# Altium schematic symbol library 00-100001-001.SchLib: 161 symbols (part 1 of 2)
Pins are listed as number, name and electrical type; pins without a type are passive.

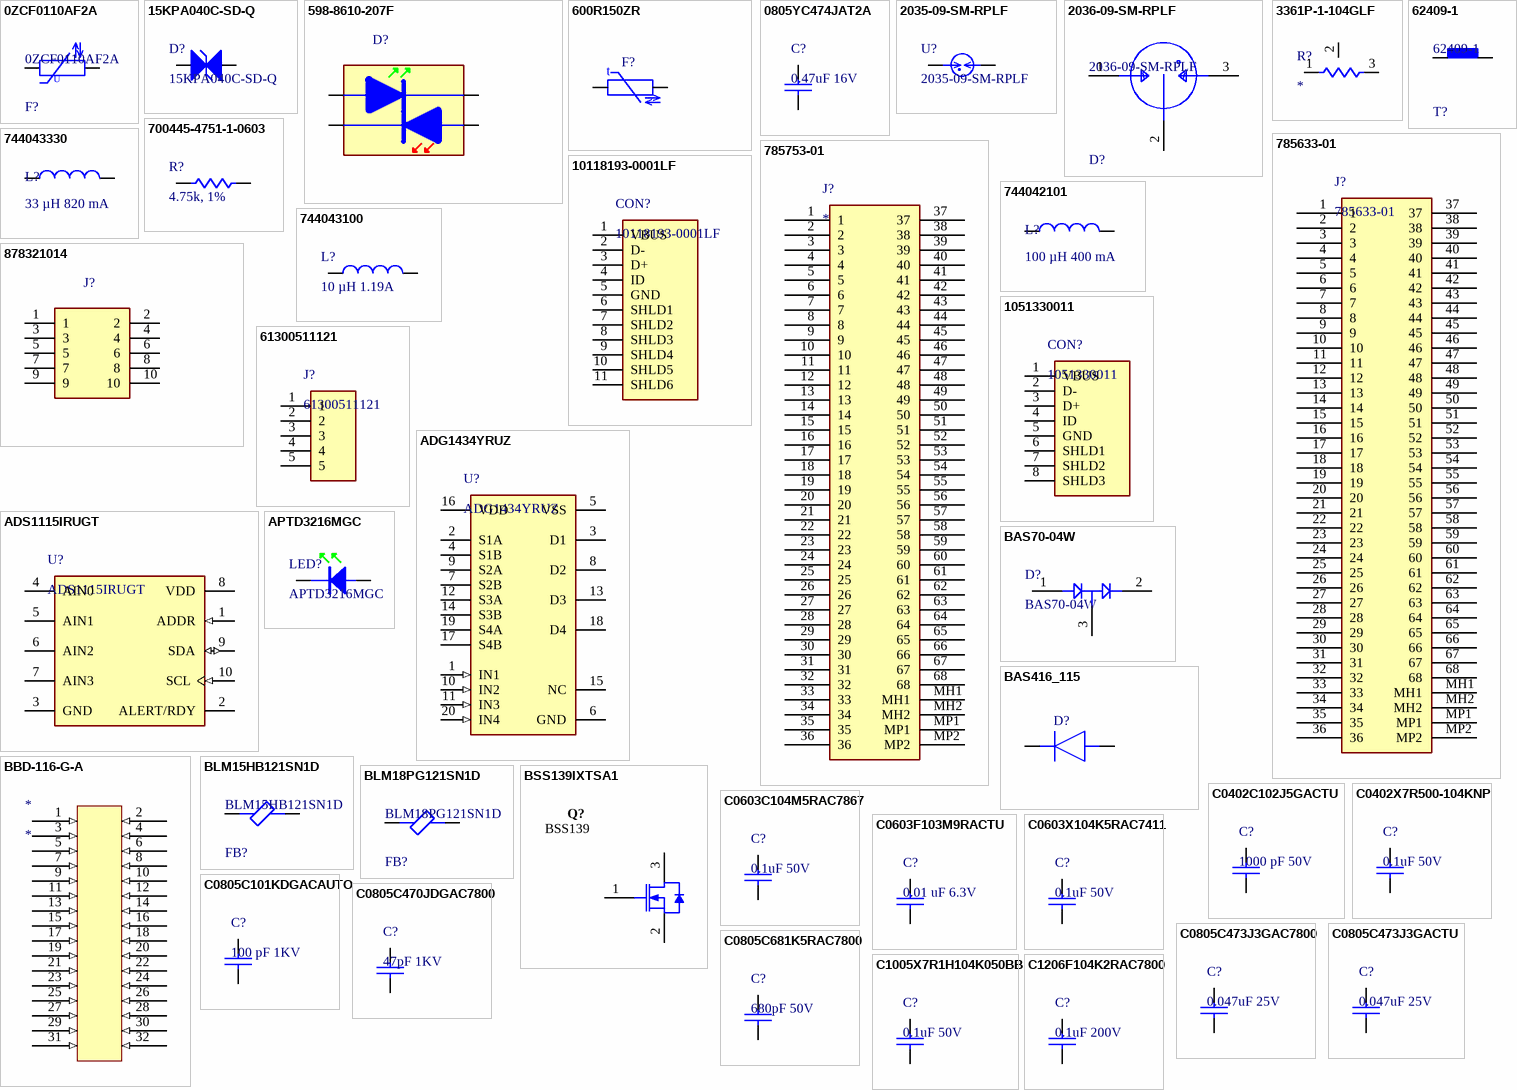
[diagram p0: symbols 0ZCF0110AF2A to C1206F104K2RAC7800]

## 0ZCF0110AF2A
designator F?
PTC RESET FUSE 60V 1.1A 2920; KMI: 841820
footprint 0ZCF0110AF2A
pins: 1, 2
text: U

## 15KPA040C-SD-Q
designator D?
Transient Voltage Suppression Diode, Bi-directional  60.5V Clamp 247.8A Ipp Tvs Diode Surface Mount DO-218; Capacitance @ Frequency: -; Package / Case: DO-214AB,SMC; Supplier Device Package: DO-214AB(SMCJ); Mounting Type: SurfaceMount
footprint DO-218_Type_E-MFG
pins: 1 A1, 2 A2

## 598-8610-207F
designator D?
Standard LEDs - SMD Red/Green WC 80/50mcd 645/570nm; KMI: 841261
footprint 5988610207F
pins: 1 A_YG, 2 K_YG, 3 A_R, 4 K_R

## 600R150ZR
designator F?
Resettable Fuses - PPTC 0.15A 600V RADIAL; KMI: 841641
footprint 600R150F
pins: 1, 2
text: t

## 0805YC474JAT2A
designator C?, comment 0.47uF 16V
0.47UF 16V 5% 0805 X7R, NPO Ceramic Capacitor; KMI: 821110; Value: 0.47uF 16V
footprint C0805-XXXXXX-XXX
pins: 1, 2

## 2035-09-SM-RPLF
designator U?
Precision Gas Discharge Tube Surge Protector; KMI: 840991
footprint 2035-09-SM-RPLF_BRN-M
pins: 1, 2

## 2036-09-SM-RPLF
designator D?
GDT 90V 20% 10KA SURFACE MOUNT; KMI: 840990
footprint 2036-09-SM-RPLF
pins: 1, 2, 3

## 3361P-1-104GLF
designator R?
Resistor; Manufacturer_Name: Bourns; Manufacturer_Part_Number: 3361P-1-104GLF; Datasheet Link: http://www.farnell.com/datasheets/1846252.pdf; Mouser Part Number: 652-3361P-1-104GLF; Mouser Price/Stock: https://www.mouser.co.uk/ProductDetail/Bourns/3361P-1-104GLF?qs=6dLjGpWcMUUsyFm0ilzttQ%3D%3D; Arrow Part Number: 3361P-1-104GLF; Arrow Price/Stock: https://www.arrow.com/en/products/3361p-1-104glf/bourns?region=nac
footprint 3361P_1
pins: 1, 2, 3

## 62409-1
designator T?
CONN QC TAB 0.250 SOLDER; Manufacturer: keystone; Number Of Contacts: 2; Conn Orientation: Straight; Category: Terminal; Manufacturer Part Number: 62409-1; Digikey Description: CONN QC TAB 0.250 SOLDER; Automotive: No; Lead Free: Yes; ComponentLink2URL: http://www.keyelco.com/product-pdf.cfm?p=1353; ComponentLink2Description: Datasheet; KMI: *
footprint TRM2_62409-1_TEC
pins: 1, 2

## 700445-4751-1-0603
designator R?, comment 4.75k, 1%
Generic 7xxx Resistor 0603; Mfg Name: 700445; Comm Number: 700445-4751-1-0603; Value: 4.75k, 1%; KMI: 700445-4751-1-0603
footprint R0603-XXXXXX-XXX
pins: 1, 2

## 785633-01
designator J?
Connector; Manufacturer_Name: NI; Datasheet Link: https://www.digikey.com/en/products/detail/ni/785633-01/16637125?s=N4IgTCBcDaIOwA4CsA2AzGkBdAvkA; Height: 10.8mm; Manufacturer_Part_Number: 785633-01
footprint CONN68_HDRA-EC_HON
pins: 1, 2, 3, 4, 5, 6, 7, 8, 9, 10, 11, 12, 13, 14, 15, 16, 17, 18, 19, 20, 21, 22, 23, 24, 25, 26, 27, 28, 29, 30, 31, 32, 33, 34, 35, 36, 37, 38, 39, 40, 41, 42, 43, 44, 45, 46, 47, 48, 49, 50, 51, 52, 53, 54, 55, 56, 57, 58, 59, 60, 61, 62, 63, 64, 65, 66, 67, 68, MH1, MH2, MP1, MP2

## 785753-01
designator J?
Connector; Manufacturer_Name: NI; Manufacturer_Part_Number: 785753-01; Datasheet Link: https://www.htk-jp.com/product/template/pdf/plan/HDRA-EC68FDT+%20EA.pdf; Height: 10.8mm
footprint 78575301
pins: 1, 2, 3, 4, 5, 6, 7, 8, 9, 10, 11, 12, 13, 14, 15, 16, 17, 18, 19, 20, 21, 22, 23, 24, 25, 26, 27, 28, 29, 30, 31, 32, 33, 34, 35, 36, 37, 38, 39, 40, 41, 42, 43, 44, 45, 46, 47, 48, 49, 50, 51, 52, 53, 54, 55, 56, 57, 58, 59, 60, 61, 62, 63, 64, 65, 66, 67, 68, MH1, MH2, MP1, MP2

## 10118193-0001LF
designator CON?
Conn Micro USB 2.0 Type B RCP 5 POS 0.65mm Solder RA SMD 5 Terminal 1 Port Micro-USB T/R; Value: 105017-0001; KMI: *
footprint CON02-000010-XXX
pins: 1 VBUS (power), 2 D-, 3 D+, 4 ID, 5 GND (power), 6 SHLD1, 7 SHLD2, 8 SHLD3, 9 SHLD4, 10 SHLD5, 11 SHLD6

## 744042101
designator L?, comment 100 µH 400 mA
SMD Shielded Tiny Power Inductor WE-TPC, L = 100 µH; KMI: 841636; ComponentLink1URL: http://www.we-online.com; PackageDescription: SMD Inductor, 2-Leads, Body 4.8 x 4.8 mm; PackageVersion: 2010; ComponentLink2URL: http://www.we-online.de/katalog/media/pdf/744042101.pdf; Value: 100 µH 400 mA; PackageReference: WE-TPC-4818-M; ComponentLink1Description: Manufacturer Link; ComponentLink2Description: Datasheet
footprint 744042101_WE-TPC-4818-M (SMD Inductor, 2-Leads, Body)
pins: 1, 2

## 744043100
designator L?, comment 10 µH 1.19A
SMD Shielded Tiny Power Inductor WE-TPC, L = 10 µH; KMI: 841891; Mfg Name: Wurth; Comm Number: 744043100; Value: 10 µH 1.19A
footprint 744042101_WE-TPC-4818-M (SMD Inductor, 2-Leads, Body)
pins: 1, 2

## 744043330
designator L?, comment 33 µH 820 mA
SMD Shielded Tiny Power Inductor WE-TPC, L = 33 µH; KMI: 841883; ComponentLink1URL: http://www.we-online.com; PackageDescription: SMD Inductor, 2-Leads, Body 4.8 x 4.8 mm; PackageVersion: 2010; ComponentLink2URL: http://www.we-online.de/katalog/media/pdf/744042101.pdf; Value: 33 µH 820 mA; PackageReference: WE-TPC-4818-M; ComponentLink1Description: Manufacturer Link; ComponentLink2Description: Datasheet
footprint 744042101_WE-TPC-4818-M (SMD Inductor, 2-Leads, Body)
pins: 1, 2

## 878321014
designator J?
Header; Manufacturer_Name: 3M; KMI: 854193; Mouser Part Number: 878321014; Mouser Price/Stock: https://www.digikey.com/en/products/detail/molex/0878321014/3313205; Manufacturer_Part_Number: 878321014
footprint 87832-1014-MFG
pins: 1, 2, 3, 4, 5, 6, 7, 8, 9, 10

## 1051330011
designator CON?
CONN RCPT USB2.0 MICRO B SMD; Value: 1051330011; KMI: *
footprint MOLX-105133-0001_V (Micro USB B, 5-Leads, Pitch 0.65mm)
pins: 1 VBUS (power), 2 D-, 3 D+, 4 ID, 5 GND (power), 6 SHLD1, 7 SHLD2, 8 SHLD3

## 61300511121
designator J?
Connector; Manufacturer_Name: Wurth Elektronik; Datasheet Link: http://katalog.we-online.de/em/datasheet/6130xx11121.pdf; Height: 8.54mm; Manufacturer_Part_Number: 61300511121; Mouser Part Number: 710-61300511121; Mouser Price/Stock: https://www.mouser.co.uk/ProductDetail/Wurth-Elektronik/61300511121?qs=PhR8RmCirEZCsCRHq%252BvfRQ%3D%3D
footprint HDRV5W64P0X254_1X5_1270X254X854P
pins: 1, 2, 3, 4, 5

## ADG1434YRUZ
designator U?
IC SWITCH SPDTX4 4.7OHM 20TSSOP
footprint SOP65P640X120-20N
pins: 1 IN1 (in) "Logic Control Input 1.", 2 S1A "Source Terminal 1A. Can be an input or an output.", 3 D1 "Drain Terminal 1. Can be an input or an output.", 4 S1B "Source Terminal 1B. Can be an input or an output.", 5 VSS (power) "Most Negative Power Supply Potential. In single-supply applications, it can be connected to ground.", 6 GND (power) "Ground (0 V) Reference.", 7 S2B "Source Terminal 2B. Can be an input or an output.", 8 D2 "Drain Terminal 2. Can be an input or an output.", 9 S2A "Source Terminal 2A. Can be an input or an output.", 10 IN2 (in) "Logic Control Input 2.", 11 IN3 (in) "Logic Control Input 3.", 12 S3A "Source Terminal 3A. Can be an input or an output.", 13 D3 "Drain Terminal 3. Can be an input or an output.", 14 S3B "Source Terminal 3B. Can be an input or an output.", 15 NC "No Connect.", 16 VDD (power) "Most Positive Power Supply Potential.", 17 S4B "Source Terminal 4B. Can be an input or an output.", 18 D4 "Drain Terminal 4. Can be an input or an output.", 19 S4A "Source Terminal 4A. Can be an input or an output.", 20 IN4 (in) "Logic Control Input 4."

## ADS1115IRUGT
designator U?
16-Bit ADC with Integrated Multiplexer, PGA, Comparator, Oscillator, and Reference, -40 to 125 degC, 10-pin HandDrawn (RUG10), Green (RoHS & no Sb/Br); KMI: 812246; Mounting Technology: Surface Mount; PartNumber: ADS1115IRUGT; ComponentLink2URL: http://www.ti.com/general/docs/lit/getliterature.tsp?genericPartNumber=ADS1115&fileType=pdf; ComponentLink2Description: Datasheet; ComponentLink3URL: http://www.ti.com/litv/pdf/mpqf216a; ComponentLink3Description: Package Specification
footprint ADS1115IRUGT (QFN, 10-Leads, Body 2x1.5mm)
pins: 1 ADDR (in) "I2C slave address select", 2 ALERT/RDY (oc) "Digital comparator output or conversion ready", 3 GND (power) "Ground", 4 AIN0 "Differential channel 1: Positive input or single-ended channel 1 input", 5 AIN1 "Differential channel 1: Negative input or single-ended channel 2 input", 6 AIN2 "Differential channel 2: Positive input or single-ended channel 3 input", 7 AIN3 "Differential channel 2: Negative input or single-ended channel 4 input", 8 VDD (power) "Power supply: 2.0V to 5.5V", 9 SDA (io) "Serial data: Transmits and receives data", 10 SCL (in) "Serial clock input: Clocks data on SDA"

## APTD3216MGC
designator LED?
1206 SMD Green Clear LED; KMI: 841257; Value: Green
footprint APTD3216MGC
pins: 1 K "Cathode", 2 A "Anode"

## BAS70-04W
designator D?
Silicon Schottky Diode, -55 to 125 degC, SOT323, Reel, Green; Manufacturer: Infineon; KMI: 800433; ComponentLink2Description: Datasheet; ComponentLink1Description: Manufacturer URL; ComponentLink2URL: http://www.infineon.com/dgdl/bas70_bas170series.pdf?folderId=db3a30431400ef68011425f1ca2505e3&fileId=db3a304314dca389011518ad41680e12; ComponentLink3URL: http://www.infineon.com/dgdl/SOT323-Package_Overview.pdf?folderId=db3a30431936bc4b0119533e1dcb3c92&fileId=db3a30431936bc4b011953495f283cb1; ComponentLink1URL: http://www.infineon.com/; ComponentLink3Description: Package Specification; PartNumber: BAS70-04W
footprint SOT323_INF_M (SOT23, 3-Leads, Body 2x1.25 mm, Pitch 0.65 mm, IPC Low Density)
pins: 1 A1, 2 K2, 3 K1:A2

## BAS416_115
designator D?
NXP BAS416,115 Low Leakage Diode, 200mA 75V, 2-Pin SOD-323 plastic, surface-mounted package; 2 leads; 1.3 mm pitch; 1.7 mm x 1.25 mm x 0.95 mm body SOD323; Manufacturer_Name: Nexperia; Geometry.Height: 1.1mm; KMI: 800432; Mouser Part Number: 771-BAS416-T/R; Mouser Price/Stock: https://www.mouser.co.uk/ProductDetail/Nexperia/BAS416115?qs=me8TqzrmIYXN%2FT0VMI6NXg%3D%3D; Manufacturer_Part_Number: BAS416,115; Datasheet Link: https://assets.nexperia.com/documents/data-sheet/BAS416.pdf
footprint SOD-323_FP-IPC_A
pins: 1 K, 2 A

## BBD-116-G-A
designator *
footprint CON32_2X16_TU_BBS_SAI
pins: 1 (in), 2 (in), 3 (in), 4 (in), 5 (in), 6 (in), 7 (in), 8 (in), 9 (in), 10 (in), 11 (in), 12 (in), 13 (in), 14 (in), 15 (in), 16 (in), 17 (in), 18 (in), 19 (in), 20 (in), 21 (in), 22 (in), 23 (in), 24 (in), 25 (in), 26 (in), 27 (in), 28 (in), 29 (in), 30 (in), 31 (in), 32 (in)

## BLM15HB121SN1D
designator FB?
Chip Ferrite Bead, 0402, Ferrite Beads 120 OHM; Impedance: 120R; Frequency: 100MHz; KMI: 841515; Case Code (Imperial): 0603; RoHS Compliant: Yes; Number of Pins: 2; Min Operating Temperature: -55°C; Case Code (Metric): 1608
footprint BLM15-0402
pins: 1, 2

## BLM18PG121SN1D
designator FB?
Chip Ferrite Bead, 0603, 120Ω @ 100MHz, 0.05Ω, 25%, 2A; Impedance: 120R; KMI: 841819; Case Code (Imperial): 0603; RoHS Compliant: Yes; Number of Pins: 2; Min Operating Temperature: -55°C; Case Code (Metric): 1608; Frequency: 100MHz
footprint BLM18-0_15_0603
pins: 1, 2

## BSS139IXTSA1
designator Q?, comment BSS139
N-Channel SIPMOS Small-Signal-Transistor, 250 V VDS, 0.1 A ID, -55 to 150 degC, PG-SOT23, Reel, Green; Manufacturer: Infineon; QG: 2.3Â nC; VGS(th)(max): -1 V; Green: TRUE; ID(max): 0.1Â A; Mode: Depletion; RDS (on)(max): 14 Ohm; Ptot(max): 0.36Â W; RthJC(max): 350 K/W; VGS(th)(min): -2.1Â V; VDS (max): 250 V; IDpuls(max): 0.4Â A; ComponentLink1Description: Manufacturer URL; ComponentLink1URL: http://www.infineon.com/; Mounting Technology: Surface Mount; ComponentLink2Description: Datasheet; PartNumber: BSS139; DatasheetVersion: Rev. 1.8; PackageVersion: Apr-08; Packing: Reel; Technology: SIPMOS; Halogen-free: TRUE; PackageDescription: 3-Pin Small Outline Transistor Package, 2.9 x 1.3 mm Body, 0.95 mm Pitch; ComponentLink3Description: Package Specification; ComponentLink3URL: http://www.infineon.com/dgdl/SOT23-Package_Overview.pdf?folderId=db3a30431936bc4b0119532290053c66&fileId=db3a30431936bc4b0119533468123c85; ComponentLink2URL: http://www.infineon.com/dgdl/BSS139+Rev1.8_.pdf?folderId=db3a304325305e6d012596c6ca7b290a&fileId=db3a304333b8a7ca0133eed3136c61f2; PackageReference: PG-SOT23; KMI: *
footprint SOT23 - IPC_A
pins: 1 GATE, 2 SOURCE, 3 DRAIN

## C0402C102J5GACTU
designator C?, comment 1000 pF 50V
1000 pF ±5% 50V Ceramic Capacitor NPO 0402; KMI: 821293; Value: 1000 pF 50V
footprint C0402-XXXXXX-XXX
pins: 1, 2

## C0402X7R500-104KNP
designator C?, comment 0.1uF 50V
**** Do not use *** 0.1 µF ±10% 50V Ceramic Capacitor X7R 0402; KMI: 821123; Value: 0.1uF 50V
footprint C0402-XXXXXX-XXX
pins: 1, 2

## C0603C104M5RAC7867
designator C?, comment 0.1uF 50V
0.1 µF ±20% 50V Ceramic Capacitor X7R 0603; KMI: 821327; Value: 0.1uF 50V
footprint C0603-XXXXXX-XXX
pins: 1, 2

## C0603F103M9RACTU
designator C?, comment 0.01 uF 6.3V
Multilayer Ceramic Capacitors MLCC - SMD/SMT 6.3V 0.01uF X7R 0603 20%; Value: 0.01 uF 6.3V
footprint C0603-XXXXXX-XXX
pins: 1, 2

## C0603X104K5RAC7411
designator C?, comment 0.1uF 50V
0.1 µF ±10% 50V Ceramic Capacitor X7R 0603; KMI: 821295; Value: 0.1uF 50V
footprint C0603-XXXXXX-XXX
pins: 1, 2

## C0805C101KDGACAUTO
designator C?, comment 100 pF 1KV
100 pF ±10% 1000V (1kV) Ceramic Capacitor C0G, NP0 0805; KMI: 821312; Value: 100 pF 1KV
footprint C0805-XXXXXX-XXX
pins: 1, 2

## C0805C470JDGAC7800
designator C?, comment 47pF 1KV
47pF 1KV 5% 0805 COG, NPO Ceramic Capacitor; KMI: 821309; Value: 47pF 1KV
footprint C0805-XXXXXX-XXX
pins: 1, 2

## C0805C473J3GAC7800
designator C?, comment 0.047uF 25V
0.047UF 25V 5% 0805 COG, NPO Ceramic Capacitor; KMI: 821310; Value: 0.047uF 25V
footprint C0805-XXXXXX-XXX
pins: 1, 2

## C0805C473J3GACTU
designator C?, comment 0.047uF 25V
0.047UF 25V 5% 0805 COG, NPO Ceramic Capacitor; KMI: 821310; Value: 0.047uF 25V
footprint C0805-XXXXXX-XXX
pins: 1, 2

## C0805C681K5RAC7800
designator C?, comment 680pF 50V
680pF 25V 5% 0805 COG, NPO Ceramic Capacitor; KMI: 821430; Value: 680pF 50V
footprint C0805-XXXXXX-XXX
pins: 1, 2

## C1005X7R1H104K050BB
designator C?, comment 0.1uF 50V
0.1 µF ±10% 50V Ceramic Capacitor X7R 0402; KMI: 821123; Value: 0.1uF 50V
footprint C0402-XXXXXX-XXX
pins: 1, 2

## C1206F104K2RAC7800
designator C?, comment 0.1uF 200V
CAP CER 0.1UF 200V X7R 1206; Value: 0.1uF 200V
footprint C1206-XXXXXX-XXX
pins: 1, 2

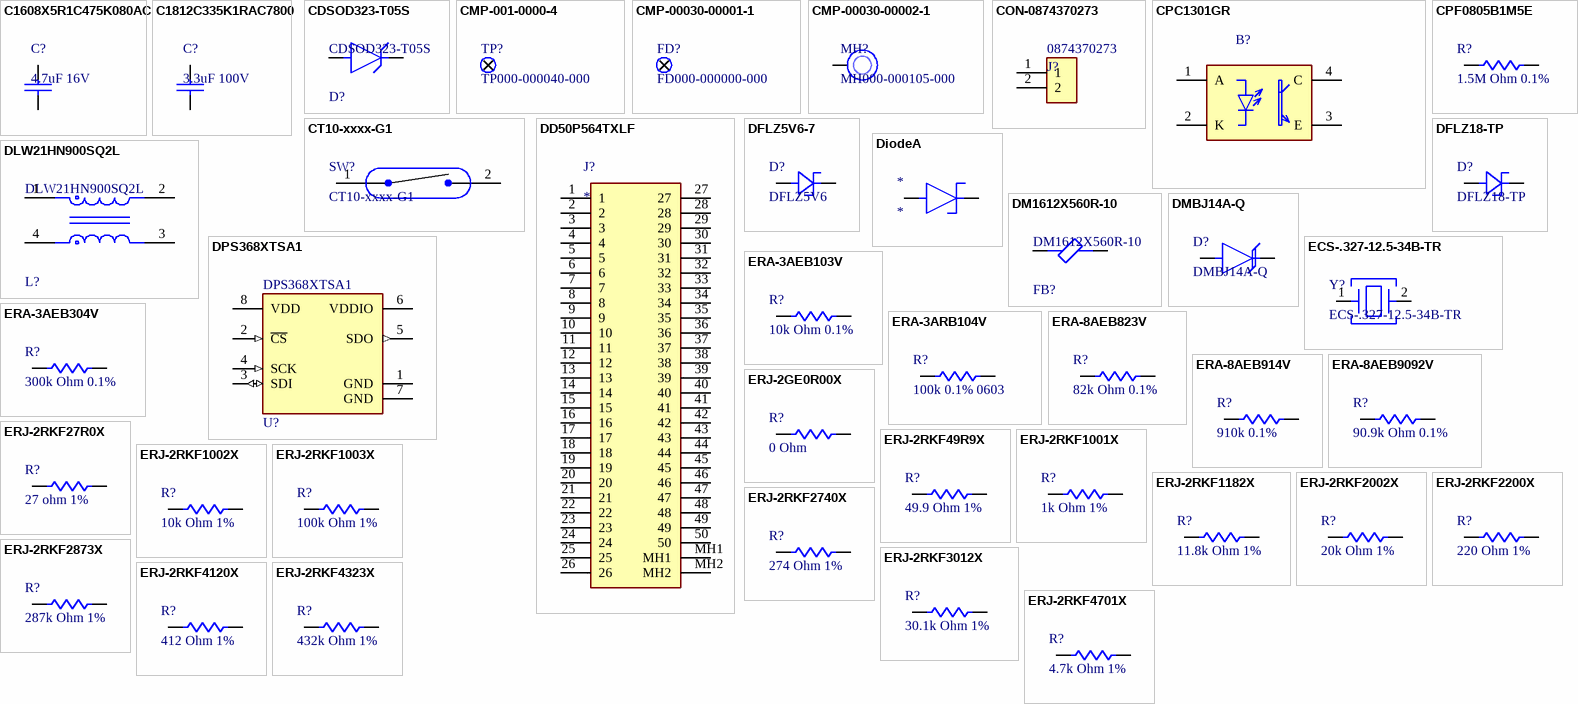
[diagram p1: symbols C1608X5R1C475K080AC to ERJ-2RKF4701X]

## C1608X5R1C475K080AC
designator C?, comment 4.7uF 16V
4.7 µF ±10% 16V Ceramic Capacitor X5R 0603; KMI: 821302; Value: 4.7uF 16V
footprint C0603-XXXXXX-XXX
pins: 1, 2

## C1812C335K1RAC7800
designator C?, comment 3.3uF 100V
CAP CER 3.3UF 100V X7R 1812; Value: 3.3uF 100V
footprint C1812-IPC_A
pins: 1, 2

## CDSOD323-T05S
designator D?
TVS DIODE 5V 13.5V SOD323; Manufacturer: Bourns Inc.; Peak Pulse Power: 500W; KMI: 800443; Device Class L2: TVS Diodes; Temperature: -55°C to +150°C; Device Class L3: unset; Digikey Description: TVS DIODE 5V 13.5V SOD323; ComponentLink2URL: https://www.bourns.com/docs/Product-Datasheets/CDSOD323-TxxSC.pdf; ComponentLink2Description: Datasheet
footprint CDSOD323-TxxS-IPC_A
pins: 1 C, 2 A

## CMP-001-0000-4
designator TP?, comment TP000-000040-000  (no BOM)
40 mil Test Point; Value: 40 mil
footprint TP000-000040-XXX
pins: 1 A "Anode"

## CMP-00030-00001-1
designator FD?, comment FD000-000000-000  (no BOM)
1mm Fiducial; Value: 1mm
footprint FD000-000000-XXX
pins: 1 A "Anode"

## CMP-00030-00002-1
designator MH?, comment MH000-000105-000  (no BOM)
105/197 Mounting Hole w/ smaller internal pads; Value: 105/197 CB
footprint MH000-000105-000
pins: 1 "Anode"

## CON-0874370273
designator J?, comment 0874370273
CONN HEADER SMD 2POS 1.5MM; Number of Contacts: 2; KMI: 854192; Orientation: Straight
footprint CON-87437-0273-MFG
pins: 1, 2

## CPC1301GR
designator B?
Optocoupler with High-Voltage Darlington Output; Manufacturer_Name: LITTELFUSE; Geometry.Height: 3.35mm; KMI: 811518; Mouser Part Number: 849-CPC1301GR; Mouser Price/Stock: https://www.mouser.co.uk/ProductDetail/IXYS-Integrated-Circuits/CPC1301GR?qs=OpMkDkHXivPfFn7MOBAUpg%3D%3D; Manufacturer_Part_Number: CPC1301GR; Datasheet Link: http://www.ixysic.com/home/pdfs.nsf/www/CPC1301.pdf/$file/CPC1301.pdf
footprint SOP254P952X335-4N
pins: 1 A, 2 K, 3 E, 4 C

## CPF0805B1M5E
designator R?, comment 1.5M Ohm 0.1%
1.5M OHM 0.1% 1/10W 0805; Value: 1.5M Ohm 0.1%; KMI: *
footprint R0805-XXXXXX-XXX (C0805-XXXXXX-XXX)
pins: 1, 2

## CT10-xxxx-G1
designator SW?
Encapsulated Molded Switch, SPST, 10 W, -40 to 125 degC, 2-Pin SMD, RoHS, Tape and Reel; Manufacturer: COTO Technology; Must Operate: 15~30AT; Catalog Drawings: CT10Series; Switching Current (DC) (Max): 500mA; Product Training Modules: ReedSwitchBasics; Other Names: 306-1125-6; Switching Voltage (DC) (Max): 200V; Circuit: SPST-NO; Magnet: NotSpecified; Switching Power (Max): 10W; Must Release: -; Datasheet URL: http://cotorelay.com/wp-content/uploads/2014/09/CT10_series_reed_relay_datasheet1.pdf; Package Reference: CT10-xxxx-G1; Series: CT10; Category: Switches; Package URL: http://cotorelay.com/wp-content/uploads/2015/01/ReedSwitch-TechAppInfo.pdf; Mounting Technology: SurfaceMount; Datasheet Version: 06/2015; Mounting Type: PCB,SurfaceMount; Online Catalog: CT10Series; Standard Package: 1; Manufacturer URL: http://cotorelay.com/; Termination Style: GullWing; Package Description: 2-Pin Surface Mount Switch, Body 11.6 x 2.41 mm; Family: Magnetic,ReedSwitches; Type: MoldedBody; Packaging: Digi-Reel®; KMI: *
footprint CT10-xxxx-G1 (Footprint not found)
pins: 1, 2

## DD50P564TXLF
designator J?
Connector; Manufacturer_Name: Amphenol; Manufacturer_Part_Number: DD50P564TXLF; Datasheet Link: https://cdn.amphenol-cs.com/media/wysiwyg/files/drawing/c-dsub-0066.pdf; Height: 15.75mm; Mouser Part Number: 649-DD50P564TXLF; Mouser Price/Stock: https://www.mouser.co.uk/ProductDetail/Amphenol-FCI/DD50P564TXLF?qs=zipNQUSoZIAta0LDkslECw%3D%3D
footprint DD50P564TXLF
pins: 1, 2, 3, 4, 5, 6, 7, 8, 9, 10, 11, 12, 13, 14, 15, 16, 17, 18, 19, 20, 21, 22, 23, 24, 25, 26, 27, 28, 29, 30, 31, 32, 33, 34, 35, 36, 37, 38, 39, 40, 41, 42, 43, 44, 45, 46, 47, 48, 49, 50, MH1, MH2

## DFLZ5V6-7
designator D?, comment DFLZ5V6
Zener; Mfr_Name: Diodes Inc; Manufacturer_Part_Number: DFLZ5V6-7; Type: DEV; KMI: 800314; Copyright: Copyright (C) 2022 Ultra Librarian. All rights reserved.; Digi-Key_Part_Number_1: DFLZ5V6DITR-ND; Digi-Key_Part_Number_2: DFLZ5V6DICT-ND; Digi-Key_Part_Number_3: DFLZ5V6DIDKR-ND; RefDes: RefDes
footprint DIODE_DFLZ5V6-7_DIO
pins: 1 C, 2 A

## DFLZ18-TP
designator D?
Zener Diode 18 V 1 W ±6% Surface Mount SOD-123FL; Mfr_Name: Micro Commercial Co; Type: DEV; Copyright: Copyright (C) 2022 Ultra Librarian. All rights reserved.; Manufacturer_Part_Number: DFLZ18-TP; Digi-Key_Part_Number_1: DFLZ18-TPMSTR-ND; Digi-Key_Part_Number_2: DFLZ18-TPMSTR-ND; RefDes: RefDes
footprint SOD123-DFLZ (SOD, 2-Leads, Body 2.7x1.65mm)
pins: 1 C, 2 A

## DiodeA
designator *
pins: 1 C, 2 A

## DLW21HN900SQ2L
designator L?
Common Mode Chokes / Filters 90 OHM 50V; DC Current: 330mA; Current Rating: 330mA; Lead Free: Lead Free; Length: 2mm; Radiation Hardening: No; Max Operating Temperature: 85°C; Voltage Rating: 50V
footprint DLW21HN-MFG
pins: 1, 2, 3, 4

## DM1612X560R-10
designator FB?
Ferrite Beads 56ohms 100MHz, Package / Case: 1612 (4131 metric); Impedance: 120R; KMI: 841171; Case Code (Imperial): 0603; RoHS Compliant: Yes; Number of Pins: 2; Min Operating Temperature: -55°C; Case Code (Metric): 1608
footprint DM1612X560R-10 (C1206-XXXXXX-XXX)
pins: 1, 2

## DMBJ14A-Q
designator D?
TVS DIODE SMB; Mfg Name: Bourns; Comm Number: DMBJ14A-Q-Q; KMI: 800581; Value: DMBJ14A-Q
footprint SMBJ18A-Q
pins: 1 C, 2 A

## DPS368XTSA1
designator U?
DIGITAL PRESSURE SENSOR; Port Style: No Port; KMI: 812241; Ambient Temperature Range Low: -40°C; Temperature: -40°C to +85°C; Ambient Temperature Range High: +85°C; ComponentLink2Description: Datasheet; ComponentLink2URL: https://www.infineon.com/dgdl/Infineon-DPS368-DataSheet-v01_01-EN.pdf?fileId=5546d46269e1c019016a0c45105d4b40
footprint DPS368XTSA1-VLGA-8-MFG
pins: 1 GND (power), 2 ~{CS} (in), 3 SDI (io), 4 SCK (in), 5 SDO (out), 6 VDDIO (power), 7 GND (power), 8 VDD (power)

## ECS-.327-12.5-34B-TR
designator Y?
CRYSTAL 32.7680KHZ 12.5PF SMD; Mfg Name: ECS Inc; KMI: 841898; Value: ECS-.327-12.5-34B-TR; Comm Number: ECS-.327-12.5-34B-TR
footprint ECS-.327-12.5-34B-TR
pins: 1, 2

## ERA-3AEB103V
designator R?, comment 10k Ohm 0.1%
10k Ohm 1/10W 0603 Resistor; KMI: 836183; Value: 10k Ohm 0.1%
footprint R0603-XXXXXX-XXX
pins: 1, 2

## ERA-3AEB304V
designator R?, comment 300k Ohm 0.1%
300k Ohm 1/10W 0603 Resistor, 0.1%; Value: 300k Ohm 0.1%; KMI: *
footprint R0603-XXXXXX-XXX
pins: 1, 2

## ERA-3ARB104V
designator R?, comment 100k 0.1% 0603
100k Ohm 1/10W 0603 Resistor; KMI: 836564; Mfg Name: Panasonic; Comm Number: ERA-3ARB104V; Value: 100k 0.1% 0603
footprint R0603-XXXXXX-XXX
pins: 1, 2

## ERA-8AEB823V
designator R?, comment 82k Ohm 0.1%
82k Ohm 1/4W 1206 Resistor; Mfg Name: Panasonic; KMI: 836581; Comm Number: ERA-8AEB823V; Value: 82k Ohm 0.1%
footprint R1206-XXXXXX-XXX
pins: 1, 2

## ERA-8AEB914V
designator R?, comment 910k 0.1%
910k Ohm 1/4W 1206 Resistor; Mfg Name: Panasonic; Comm Number: ERA-8AEB914V; KMI: 836582; Value: 910k 0.1%
footprint R1206-XXXXXX-XXX
pins: 1, 2

## ERA-8AEB9092V
designator R?, comment 90.9k Ohm 0.1%
90.9k Ohm 1/4W 1206 Resistor; KMI: 836563; Value: 90.9k Ohm 0.1%
footprint R1206-XXXXXX-XXX
pins: 1, 2

## ERJ-2GE0R00X
designator R?, comment 0 Ohm
0 Ohm 1/10W 0402 Resistor; KMI: 830103; Mfg Name: Panasonic; Comm Number: ERJ-2GE0R00X; Value: 0 Ohm
footprint R0402-XXXXXX-XXX
pins: 1, 2

## ERJ-2RKF27R0X
designator R?, comment 27 ohm 1%
27 Ohm 1/10W 0402 Resistor; Value: 27 ohm 1%; KMI: *
footprint R0402-XXXXXX-XXX
pins: 1, 2

## ERJ-2RKF49R9X
designator R?, comment 49.9 Ohm 1%
49.9 Ohm 1/10W 0402 Resistor; KMI: 830108; Value: 49.9 Ohm 1%
footprint R0402-XXXXXX-XXX
pins: 1, 2

## ERJ-2RKF1001X
designator R?, comment 1k Ohm 1%
1k Ohm 1/10W 0402 Resistor; Value: 1k Ohm 1%; KMI: *
footprint R0402-XXXXXX-XXX
pins: 1, 2

## ERJ-2RKF1002X
designator R?, comment 10k Ohm 1%
10k Ohm 1/10W 0402 Resistor; KMI: 836554; Mfg Name: Panasonic; Comm Number: ERJ-2RKF1002X; Value: 10k Ohm 1%
footprint R0402-XXXXXX-XXX
pins: 1, 2

## ERJ-2RKF1003X
designator R?, comment 100k Ohm 1%
100k Ohm 1/10W 0402 Resistor; KMI: 836553; Value: 100k Ohm 1%
footprint R0402-XXXXXX-XXX
pins: 1, 2

## ERJ-2RKF1182X
designator R?, comment 11.8k Ohm 1%
11.8k Ohm 1/10W 0402 Resistor; Value: 11.8k Ohm 1%; KMI: *
footprint R0402-XXXXXX-XXX
pins: 1, 2

## ERJ-2RKF2002X
designator R?, comment 20k Ohm 1%
20k Ohm 1/10W 0402 Resistor; KMI: 836557; Value: 20k Ohm 1%
footprint R0402-XXXXXX-XXX
pins: 1, 2

## ERJ-2RKF2200X
designator R?, comment 220 Ohm 1%
220 Ohm 1/10W 0402 Resistor; Value: 220 Ohm 1%; KMI: *
footprint R0402-XXXXXX-XXX
pins: 1, 2

## ERJ-2RKF2740X
designator R?, comment 274 Ohm 1%
274 Ohm 1/10W 0402 Resistor; Value: 274 Ohm 1%; KMI: *
footprint R0402-XXXXXX-XXX
pins: 1, 2

## ERJ-2RKF2873X
designator R?, comment 287k Ohm 1%
287k Ohm 1/10W 0402 Resistor; KMI: 836211; Value: 287k Ohm 1%
footprint R0402-XXXXXX-XXX
pins: 1, 2

## ERJ-2RKF3012X
designator R?, comment 30.1k Ohm 1%
30.1k Ohm 1/10W 0402 Resistor; KMI: 836562; Value: 30.1k Ohm 1%
footprint R0402-XXXXXX-XXX
pins: 1, 2

## ERJ-2RKF4120X
designator R?, comment 412 Ohm 1%
412 Ohm 1/10W 0402 Resistor; Value: 412 Ohm 1%; KMI: *
footprint R0402-XXXXXX-XXX
pins: 1, 2

## ERJ-2RKF4323X
designator R?, comment 432k Ohm 1%
432k Ohm 1/10W 0402 Resistor; Value: 432k Ohm 1%; KMI: *
footprint R0402-XXXXXX-XXX
pins: 1, 2

## ERJ-2RKF4701X
designator R?, comment 4.7k Ohm 1%
4.7k Ohm 1/10W 0402 Resistor; Value: 4.7k Ohm 1%; KMI: *
footprint R0402-XXXXXX-XXX
pins: 1, 2

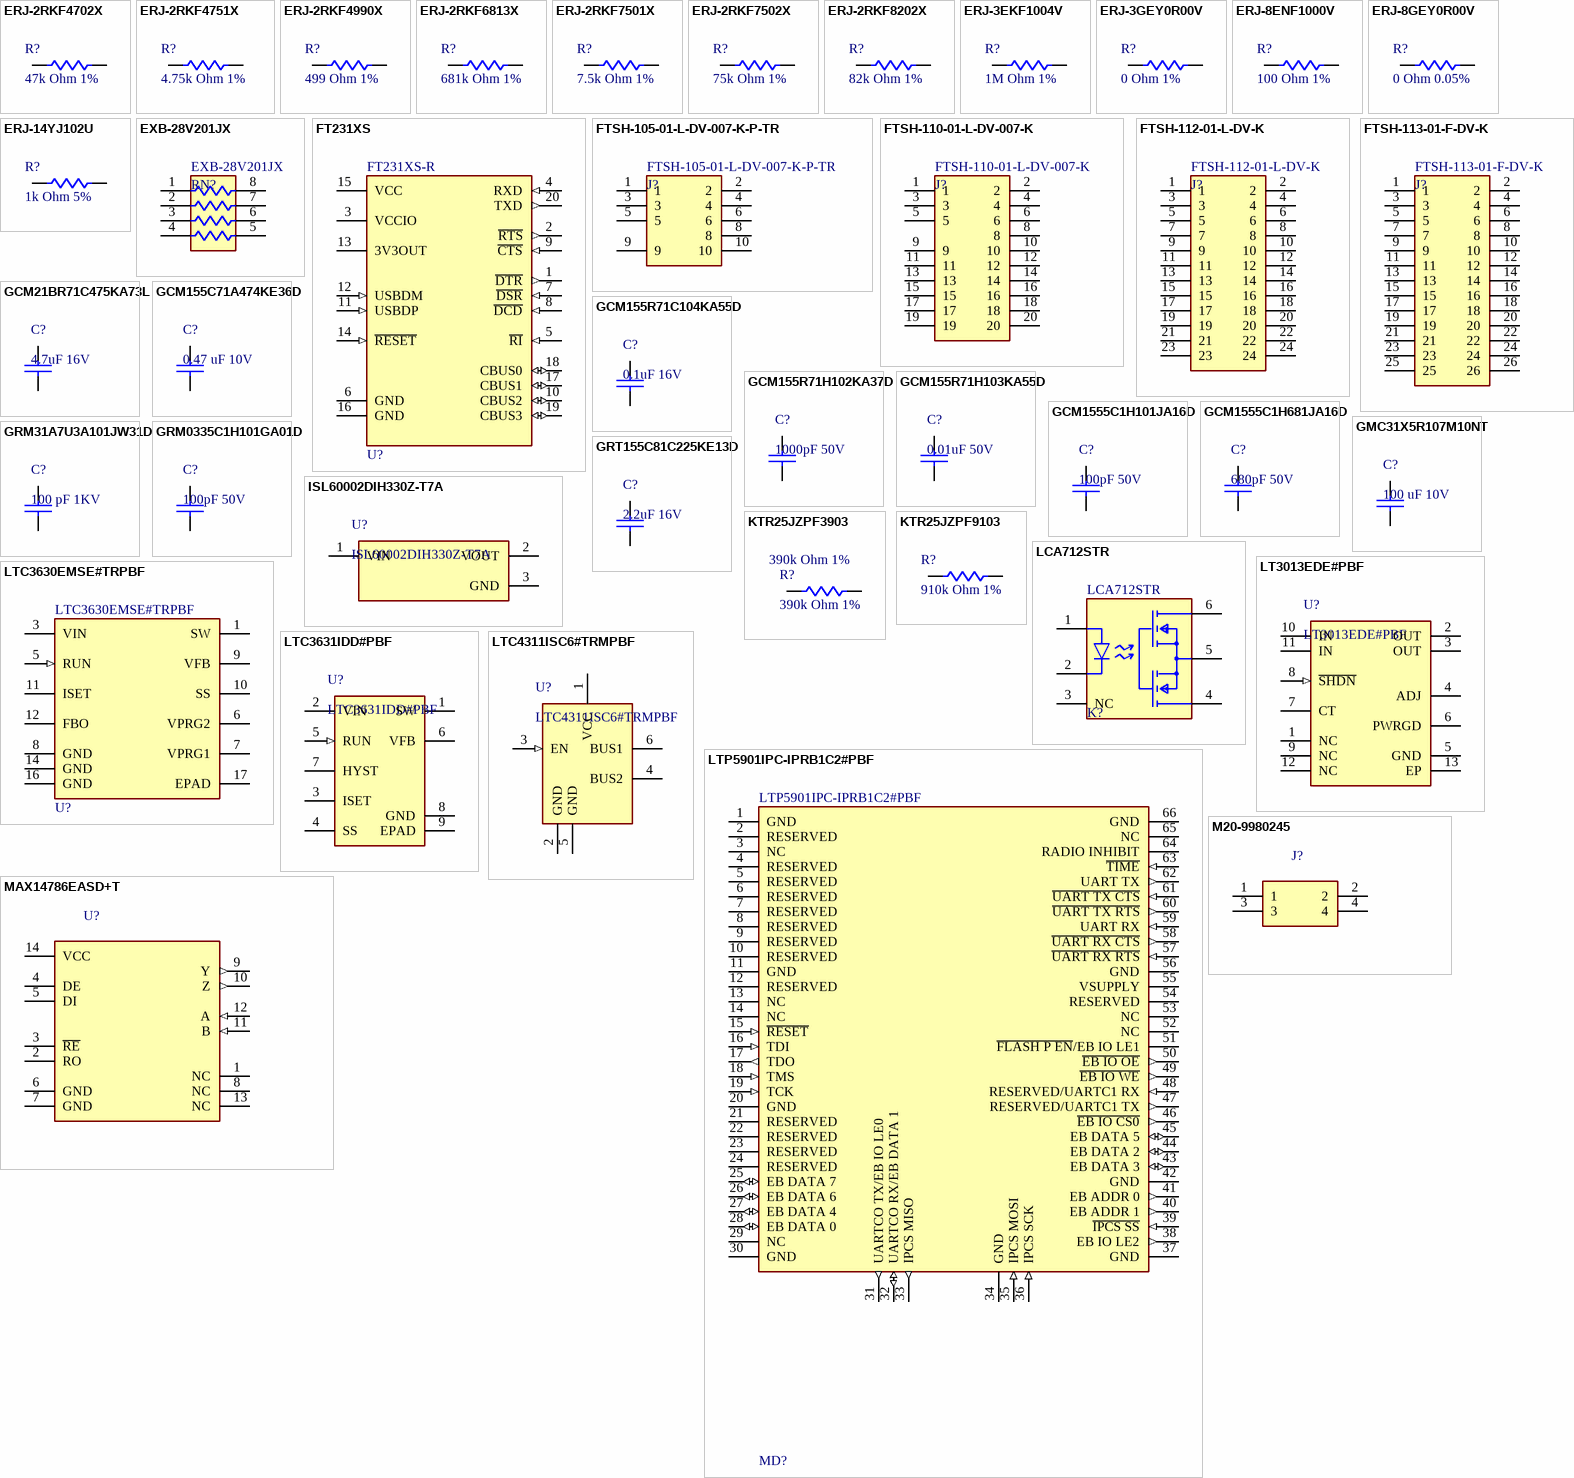
[diagram p2: symbols ERJ-2RKF4702X to MAX14786EASD+T]

## ERJ-2RKF4702X
designator R?, comment 47k Ohm 1%
47k Ohm 1/10W 0402 Resistor; KMI: 836556; Value: 47k Ohm 1%
footprint R0402-XXXXXX-XXX
pins: 1, 2

## ERJ-2RKF4751X
designator R?, comment 4.75k Ohm 1%
4.75k Ohm 1/10W 0402 Resistor; KMI: 836555; Value: 4.75k Ohm 1%
footprint R0402-XXXXXX-XXX
pins: 1, 2

## ERJ-2RKF4990X
designator R?, comment 499 Ohm 1%
499 Ohm 1/10W 0402 Resistor; Value: 499 Ohm 1%; KMI: *
footprint R0402-XXXXXX-XXX
pins: 1, 2

## ERJ-2RKF6813X
designator R?, comment 681k Ohm 1%
681k Ohm 1/10W 0402 Resistor; KMI: 836558; Value: 681k Ohm 1%
footprint R0402-XXXXXX-XXX
pins: 1, 2

## ERJ-2RKF7501X
designator R?, comment 7.5k Ohm 1%
7.5k Ohm 1/10W 0402 Resistor; KMI: 836561; Value: 7.5k Ohm 1%
footprint R0402-XXXXXX-XXX
pins: 1, 2

## ERJ-2RKF7502X
designator R?, comment 75k Ohm 1%
75k Ohm 1/10W 0402 Resistor; KMI: 836560; Value: 75k Ohm 1%
footprint R0402-XXXXXX-XXX
pins: 1, 2

## ERJ-2RKF8202X
designator R?, comment 82k Ohm 1%
82k Ohm 1/10W 0402 Resistor; Value: 82k Ohm 1%; KMI: *
footprint R0402-XXXXXX-XXX
pins: 1, 2

## ERJ-3EKF1004V
designator R?, comment 1M Ohm 1%
1M OHM 1% 1/10W 0603; Value: 1M Ohm 1%
footprint R0603-XXXXXX-XXX
pins: 1, 2

## ERJ-3GEY0R00V
designator R?, comment 0 Ohm 1%
0 OHM 1% 1/10W 0603; KMI: 836559; Mfg Name: Panasonic; Comm Number: ERJ-3GEY0R00V; Value: 0 Ohm 1%
footprint R0603-XXXXXX-XXX
pins: 1, 2

## ERJ-8ENF1000V
designator R?, comment 100 Ohm 1%
100 OHM 1% 1/4W 1206; Value: 100 Ohm 1%; KMI: *
footprint R1206-XXXXXX-XXX
pins: 1, 2

## ERJ-8GEY0R00V
designator R?, comment 0 Ohm 0.05%
0 Ohm 1/4W 1206 Resistor, 0.05%; KMI: 836559; MFG Name: Panasonic; Comm. Number: ERJ-8GEY0R00V; Value: 0 Ohm 0.05%
footprint R1206-XXXXXX-XXX (C1206-XXXXXX-XXX)
pins: 1, 2

## ERJ-14YJ102U
designator R?, comment 1k Ohm 5%
1k Ohm 1/2W 1210 Resistor; Value: 1k Ohm 5%
footprint KTR25-IPC_A
pins: 1, 2

## EXB-28V201JX
designator RN?
Resistor Networks & Arrays 200 OHM 5%; KMI: 836565; Lead Free: Lead Free
footprint EXB28V-MFG
pins: 1, 2, 3, 4, 5, 6, 7, 8

## FT231XS
designator U?, comment FT231XS-R
IC USB SERIAL FULL UART 20SSOP; Operating Supply Voltage: 5V; Height: 0.059inch; Packaging: Tape and Reel; Mount: Surface Mount; KMI: *
footprint SSOP-20-IPC_A
pins: 1 ~{DTR} (out), 2 ~{RTS} (out), 3 VCCIO (power), 4 RXD (in), 5 ~{RI} (in), 6 GND (power), 7 ~{DSR} (in), 8 ~{DCD} (in), 9 ~{CTS} (in), 10 CBUS2 (io), 11 USBDP (in), 12 USBDM (in), 13 3V3OUT (power), 14 ~{RESET} (in), 15 VCC (power), 16 GND (power), 17 CBUS1 (io), 18 CBUS0 (io), 19 CBUS3 (io), 20 TXD (out)

## FTSH-105-01-L-DV-007-K-P-TR
designator J?
Connector Header Surface Mount 10 position 0.050"; Number of Contacts: 9; KMI: 854195; Orientation: Straight
footprint FTSH-105-01-L-DV-007-K-MFG
pins: 1, 2, 3, 4, 5, 6, 8, 9, 10

## FTSH-110-01-L-DV-007-K
designator J?
Connector Header Surface Mount 20 position 0.050"; Number of Contacts: 9; Orientation: Straight
footprint FP-FTSH-110-01-L-DV-007-K-MFG
pins: 1, 2, 3, 4, 5, 6, 8, 9, 10, 11, 12, 13, 14, 15, 16, 17, 18, 19, 20

## FTSH-112-01-L-DV-K
designator J?
Connector Header Surface Mount 24 position 0.050"; Number of Contacts: 24; Orientation: Straight
footprint FTSH-112-01-L-DV-K
pins: 1, 2, 3, 4, 5, 6, 7, 8, 9, 10, 11, 12, 13, 14, 15, 16, 17, 18, 19, 20, 21, 22, 23, 24

## FTSH-113-01-F-DV-K
designator J?
Connector Header Surface Mount 26 position 0.050"; Number of Contacts: 24; KMI: 854194; Orientation: Straight
footprint FP-FTSH-113-01-F-DV-K-MFG
pins: 1, 2, 3, 4, 5, 6, 7, 8, 9, 10, 11, 12, 13, 14, 15, 16, 17, 18, 19, 20, 21, 22, 23, 24, 25, 26

## GCM21BR71C475KA73L
designator C?, comment 4.7uF 16V
4.7UF 16V 10% X7R 0805 Ceramic Capacitor; Value: 4.7uF 16V; KMI: *
footprint C0805-XXXXXX-XXX
pins: 1, 2

## GCM155C71A474KE36D
designator C?, comment 0.47 uF 10V
0.47uF 10V 10% X7S 0402 Ceramic Capacitor; Value: 0.47 uF 10V; KMI: *
footprint C0402-XXXXXX-XXX
pins: 1, 2

## GCM155R71C104KA55D
designator C?, comment 0.1uF 16V
0.1uF 16V 10% X7R 0402 Ceramic Capacitor; KMI: 821069; Mfg Name: MURATA; Comm Number: GCM155R71C104KA55D; Value: 0.1uF 16V
footprint C0402-XXXXXX-XXX
pins: 1, 2

## GCM155R71H102KA37D
designator C?, comment 1000pF 50V
1000 pF 50V 10% 0402 X7R Ceramic Capacitor; Value: 1000pF 50V
footprint C0402-XXXXXX-XXX
pins: 1, 2

## GCM155R71H103KA55D
designator C?, comment 0.01uF 50V
0.01uF 50V 10% X7R 0402 Ceramic Capacitor; Value: 0.01uF 50V; KMI: *
footprint C0402-XXXXXX-XXX
pins: 1, 2

## GCM1555C1H101JA16D
designator C?, comment 100pF 50V
100PF 50V 5% COG NPO 0402 Ceramic Capacitor; Value: 100pF 50V; KMI: *
footprint C0402-XXXXXX-XXX
pins: 1, 2

## GCM1555C1H681JA16D
designator C?, comment 680pF 50V
680pF 50V 5% NP0/C0G 0402 Ceramic Capacitor; Value: 680pF 50V; KMI: *
footprint C0402-XXXXXX-XXX
pins: 1, 2

## GMC31X5R107M10NT
designator C?, comment 100 uF 10V
100 µF ±20% 10V Ceramic Capacitor X5R 1206; KMI: 821442; Value: 100 uF 10V
footprint C1206-XXXXXX-XXX
pins: 1, 2

## GRM31A7U3A101JW31D
designator C?, comment 100 pF 1KV
100 pF ±5% 1000V (1kV) Ceramic Capacitor C0G, NP0 1206; Value: 100 pF 1KV
footprint C1206-XXXXXX-XXX
pins: 1, 2

## GRM0335C1H101GA01D
designator C?, comment 100pF 50V
100 pF ±2% 50V Ceramic Capacitor X7R 0603; KMI: 821335; Value: 100pF 50V
footprint C0603-XXXXXX-XXX
pins: 1, 2

## GRT155C81C225KE13D
designator C?, comment 2.2uF 16V
2.2uF 16V 10% 0402 Ceramic Capacitor; KMI: 821443; Value: 2.2uF 16V
footprint C0402-XXXXXX-XXX
pins: 1, 2

## ISL60002DIH330Z-T7A
designator U?
Precision Low Power FGA Voltage References; Mfr_Name: Renesas Electronics; KMI: 812247; Copyright: Copyright (C) 2022 Ultra Librarian. All rights reserved.; Manufacturer_Part_Number: ISL60002DIH330Z-T7A; RefDes: RefDes; Type: DEV
footprint SOT23 - IPC_A
pins: 1 VIN (power), 2 VOUT (power), 3 GND (power)

## KTR25JZPF3903
designator R?, comment 390k Ohm 1%
390k Ohm 1/3W 1210 Resistor; Value: 390k Ohm 1%
footprint KTR25-IPC_A
pins: 1, 2

## KTR25JZPF9103
designator R?, comment 910k Ohm 1%
910k Ohm 1/3W 1210 Resistor; Value: 910k Ohm 1%
footprint KTR25-IPC_A
pins: 1, 2

## LCA712STR
designator K?
SSR RELAY SPST-NO 1A 0-60V; Output Voltage: 60V; Series: LCA, OptoMOS®; Mount: Surface Mount; KMI: *
footprint LCA712STR-MFG
pins: 1 + Control, 2 - Control, 3 NC, 4, 5, 6

## LT3013EDE#PBF
designator U?
250 mA, Low Dropout Micropower Linear Regulator with PWRGD, 4 to 80 V Vin, Adjustable Vout, 12-pin SON (DE-UE-12), -40 to 125 degC, Pb-Free; Manufacturer: Linear Technology; Vin Min(V): 4; Output Voltage: Adj; Isupply(mA): 0.065; Discrete Pass Element: no; PSRR(dB): 75; Vin Max(V): 80; Noise(uV): 100; Shutdown Current(uA): 1; Iout(mA): 250; Vout Max(V): 60; Vout Min(V): 1.24; Dropout Voltage(V): 0.4; ComponentLink2URL: http://cds.linear.com/docs/en/datasheet/3013fe.pdf; ComponentLink1Description: Manufacturer URL; ComponentLink3URL: http://cds.linear.com/docs/en/packaging/DFN_12_05-08-1695.pdf; ComponentLink2Description: Datasheet; RoHS: TRUE; PackageDescription: 12-Pin Plastic DFN, Body 4 x 3 mm, Pitch 0.5 mm; ComponentLink3Description: Package Specification; Mounting Technology: Surface Mount; Code_JEDEC: MO-229; PackageVersion: Rev. D, 06/2010; PartNumber: LT3013EDE#PBF; DatasheetVersion: Rev. E; PackageReference: DE-UE-12; ComponentLink1URL: http://www.linear.com/; Number of Outputs: 1; KMI: *
footprint LT3013EDE#PBF (SON, 12-Leads, Body 4x3mm, Pitch 0.5mm, Thermal Pad 3.3x1.7mm)
pins: 1 NC "No Connect. These pins have no internal connection; connecting NC pins to a copper area for heat dissipation provides a small improvement in thermal performance.", 2 OUT (power) "Output. The output supplies power to the load. A minimum output capacitor of 3.3uF is required to prevent oscillations. Larger output capacitors will be required for applications with large transient loads to limit peak (See Datasheet)", 3 OUT (power) "Output. The output supplies power to the load. A minimum output capacitor of 3.3uF is required to prevent oscillations. Larger output capacitors will be required for applications with large transient loads to limit peak (See Datasheet)", 4 ADJ "Adjust. This is the input to the error amplifier. This pin is internally clamped to +/-7V. It has a bias current of 30nA which fl ows into the pin (see curve of ADJ Pin Bias Current vs Temperature in the Typical Performance (See Datasheet)", 5 GND (power) "Ground. The exposed backside of the package is an electrical connection for GND. As such, to ensure optimum device operation and thermal performance, the exposed pad must be connected directly to Pin 5/Pin 6 on the PC board.", 6 PWRGD (hiz) "Power Good. The PWRGD flag is an open collector flag to indicate that the output voltage has come up to above 90% of the nominal output voltage. There is no internal pull-up on this pin; a pull-up resistor must be used. The (See Datasheet)", 7 CT "Timing Capacitor. The CT pin allows the use of a small capacitor to delay the timing between the point where the output crosses the PWRGD threshold and the PWRGD flag changes to a high impedance state. Current out of this (See Datasheet)", 8 ~{SHDN} (in) "Shutdown. The S\H\D\N\ pin is used to put the LT3013 into a low power shutdown state. The output will be off when the S\H\D\N\ pin is pulled low. The S\H\D\N\ pin can be driven either by 5V logic or open-collector logic with (See Datasheet)", 9 NC "No Connect. These pins have no internal connection; connecting NC pins to a copper area for heat dissipation provides a small improvement in thermal performance.", 10 IN (power) "Input. Power is supplied to the device through the IN pin. A bypass capacitor is required on this pin if the device is more than six inches away from the main input filter capacitor. In general, the output impedance of a (See Datasheet)", 11 IN (power) "Input. Power is supplied to the device through the IN pin. A bypass capacitor is required on this pin if the device is more than six inches away from the main input filter capacitor. In general, the output impedance of a (See Datasheet)", 12 NC "No Connect. These pins have no internal connection; connecting NC pins to a copper area for heat dissipation provides a small improvement in thermal performance.", 13 EP (power) "Ground. The exposed backside of the package is an electrical connection for GND. As such, to ensure optimum device operation and thermal performance, the exposed pad must be connected directly to Pin 5/Pin 6 on the PC board."

## LTC3630EMSE#TRPBF
designator U?
IC REG BCK ADJ/PROG 500MA 16MSOP; Output Voltage: 76V; Output Type: Adjustable; Number of Outputs: 1; Synchronous Rectifier: Yes; Min Input Voltage: 4V; KMI: 812245; Package Quantity: 2500; Output Current: 500mA; Number of Pins: 12; Min Operating Temperature: -40°C; RoHS Compliant: Yes; Packaging: Tape and Reel; Max Operating Temperature: 125°C; Case/Package: SOP
footprint LTC3630EMSE#TRPBF
pins: 1 SW (power), 3 VIN (power), 5 RUN (in), 6 VPRG2, 7 VPRG1, 8 GND (power), 9 VFB, 10 SS (power), 11 ISET, 12 FBO, 14 GND (power), 16 GND (power), 17 EPAD (power)

## LTC3631IDD#PBF
designator U?
High Efficiency, High Voltage 100 mA Synchronous Step-Down Converter, 8-pin SON (DD-8), -40 to 125 degC, Pb-Free; Manufacturer: Linear Technology; Number of Outputs: 1; KMI: 811338; Code_JEDEC: MO-229; PackageDescription: 8-Pin Plastic DFN, Body 3 x 3 mm, Pitch 0.5 mm; ComponentLink1URL: http://www.linear.com/; ComponentLink1Description: Manufacturer URL; ComponentLink2URL: http://cds.linear.com/docs/en/datasheet/3631fe.pdf; RoHS: TRUE; ComponentLink3URL: http://cds.linear.com/docs/en/packaging/DFN_8_05-08-1698.pdf; ComponentLink3Description: Package Specification; Mounting Technology: Surface Mount; ComponentLink2Description: Datasheet
footprint LTC3631IDD#PBF
pins: 1 SW (power) "Switch Node Connection to Inductor. This pin connects to the drains of the internal power MOSFET switches.", 2 VIN (power) "Main Supply Pin. A ceramic bypass capacitor should be tied between this pin and GND (Pin 8).", 3 ISET, 4 SS "Soft-Start Control Input. A capacitor to ground at this pin sets the ramp time to full current output during start-up. A 5uA current is sourced out of this pin. If left floating, the ramp time defaults to an internal 0.75ms (See Datasheet)", 5 RUN (in), 6 VFB "Output Voltage Feedback. For the fixed output versions, connect this pin to the output supply. For the adjustable version, an external resistive divider should be used to divide the output voltage down for comparison to the (See Datasheet)", 7 HYST (oc) "Run Hysteresis Open-Drain Logic Output. This pin is pulled to ground when RUN (Pin 5) is below 1.2V. This pin can be used to adjust the RUN pin hysteresis. See Applications Information.", 8 GND (power) "Ground. The exposed pad must be soldered to the printed circuit board ground plane for optimal electrical and thermal performance.", 9 EPAD (power) "Ground. The exposed pad must be soldered to the printed circuit board ground plane for optimal electrical and thermal performance."

## LTC4311ISC6#TRMPBF
designator U?
IC ACCELERATOR I2C 1CH SC70-6; Mfg Name: Analog Devices; KMI: 811545; Value: LTC4311ISC6#TRMPBF; Comm Number: LTC4311ISC6#TRMPBF
footprint LTC4311ISC6#TRMPBF
pins: 1 VCC (power) "Switch Node Connection to Inductor. This pin connects to the drains of the internal power MOSFET switches.", 2 GND (power) "Ground. The exposed pad must be soldered to the printed circuit board ground plane for optimal electrical and thermal performance.", 3 EN (in), 4 BUS2 (oc) "Run Hysteresis Open-Drain Logic Output. This pin is pulled to ground when RUN (Pin 5) is below 1.2V. This pin can be used to adjust the RUN pin hysteresis. See Applications Information.", 5 GND (power) "Ground. The exposed pad must be soldered to the printed circuit board ground plane for optimal electrical and thermal performance.", 6 BUS1 "Output Voltage Feedback. For the fixed output versions, connect this pin to the output supply. For the adjustable version, an external resistive divider should be used to divide the output voltage down for comparison to the (See Datasheet)"

## LTP5901IPC-IPRB1C2#PBF
designator MD?
RX TXRX MODULE 802.15.4 CHIP SMD; Memory Size: 72KB; Interface: SPI; Min Supply Voltage: 2.1V; Sensitivity: -95dBm; Data Rate: 250Kbps; Max Frequency: 2.4835GHz; Max Supply Voltage: 3.76V; Current - Transmitting: 9.7mA; Current - Receiving: 4.5mA; Frequency: 2.4GHz; KMI: 812248; Mount: Surface Mount; REACH SVHC: No SVHC; Series: SmartMesh® IP; Max Operating Temperature: 85°C; Packaging: Rail/Tube; Min Operating Temperature: -40°C; Case/Package: Module
footprint LTP5901_PCA-66-05-08-10002-MFG
pins: 1 GND (power), 2 RESERVED, 3 NC, 4 RESERVED, 5 RESERVED, 6 RESERVED, 7 RESERVED, 8 RESERVED, 9 RESERVED, 10 RESERVED, 11 GND (power), 12 RESERVED, 13 NC, 14 NC, 15 ~{RESET} (in), 16 TDI (in), 17 TDO (out), 18 TMS (in), 19 TCK (in), 20 GND (power), 21 RESERVED, 22 RESERVED, 23 RESERVED, 24 RESERVED, 25 EB DATA 7 (io), 26 EB DATA 6 (io), 27 EB DATA 4 (io), 28 EB DATA 0 (io), 29 NC, 30 GND (power), 31 UARTCO TX/EB IO LE0 (out), 32 UARTCO RX/EB DATA 1 (io), 33 IPCS MISO (out), 34 GND (power), 35 IPCS MOSI (in), 36 IPCS SCK (in), 37 GND (power), 38 EB IO LE2 (out), 39 ~{IPCS SS} (in), 40 EB ADDR 1 (out), 41 EB ADDR 0 (out), 42 GND (power), 43 EB DATA 3 (io), 44 EB DATA 2 (io), 45 EB DATA 5 (io), 46 ~{EB IO CS0} (out), 47 RESERVED/UARTC1 TX (out), 48 RESERVED/UARTC1 RX (in), 49 ~{EB IO WE} (out), 50 ~{EB IO OE} (out), 51 ~{FLASH P EN}/EB IO LE1, 52 NC, 53 NC, 54 RESERVED, 55 VSUPPLY (power), 56 GND (power), 57 ~{UART RX RTS} (in), 58 ~{UART RX CTS} (out), 59 UART RX (in), 60 ~{UART TX RTS} (out), 61 ~{UART TX CTS} (in), 62 UART TX (out), 63 ~{TIME} (in), 64 RADIO INHIBIT, 65 NC, 66 GND (power)

## M20-9980245
designator J?
CONN HEADER VERT 4POS 2.54MM; Manufacturer_Name: Harwin; Digikey Part Number: 952-2119-ND; Manufacturer_Part_Number: M20-9980245
footprint CONN_M20-9980245_HRW
pins: 1, 2, 3, 4

## MAX14786EASD+T
designator U?
RS-485 Interface IC Full-Duplex, 35kV ESD-Protected, RS-485 Transceivers for High-Speed Communication; Manufacturer_Name: Maxim Integrated; Geometry.Height: 1.75mm; KMI: 812242; Mouser Part Number: 700-MAX14786EASD+T; Mouser Price/Stock: https://www.mouser.co.uk/ProductDetail/Maxim-Integrated/MAX14786EASD%2bT?qs=ooqgTKD20dqNsq5G%2FcpYpQ%3D%3D; Manufacturer_Part_Number: MAX14786EASD+T; Datasheet Link: https://pdfserv.maximintegrated.com/en/ds/MAX14784E-MAX14789E.pdf
footprint SOIC127P600X175-14N
pins: 1 NC, 2 RO, 3 ~{RE}, 4 DE, 5 DI, 6 GND, 7 GND, 8 NC, 9 Y (out), 10 Z (out), 11 B (in), 12 A (in), 13 NC, 14 VCC

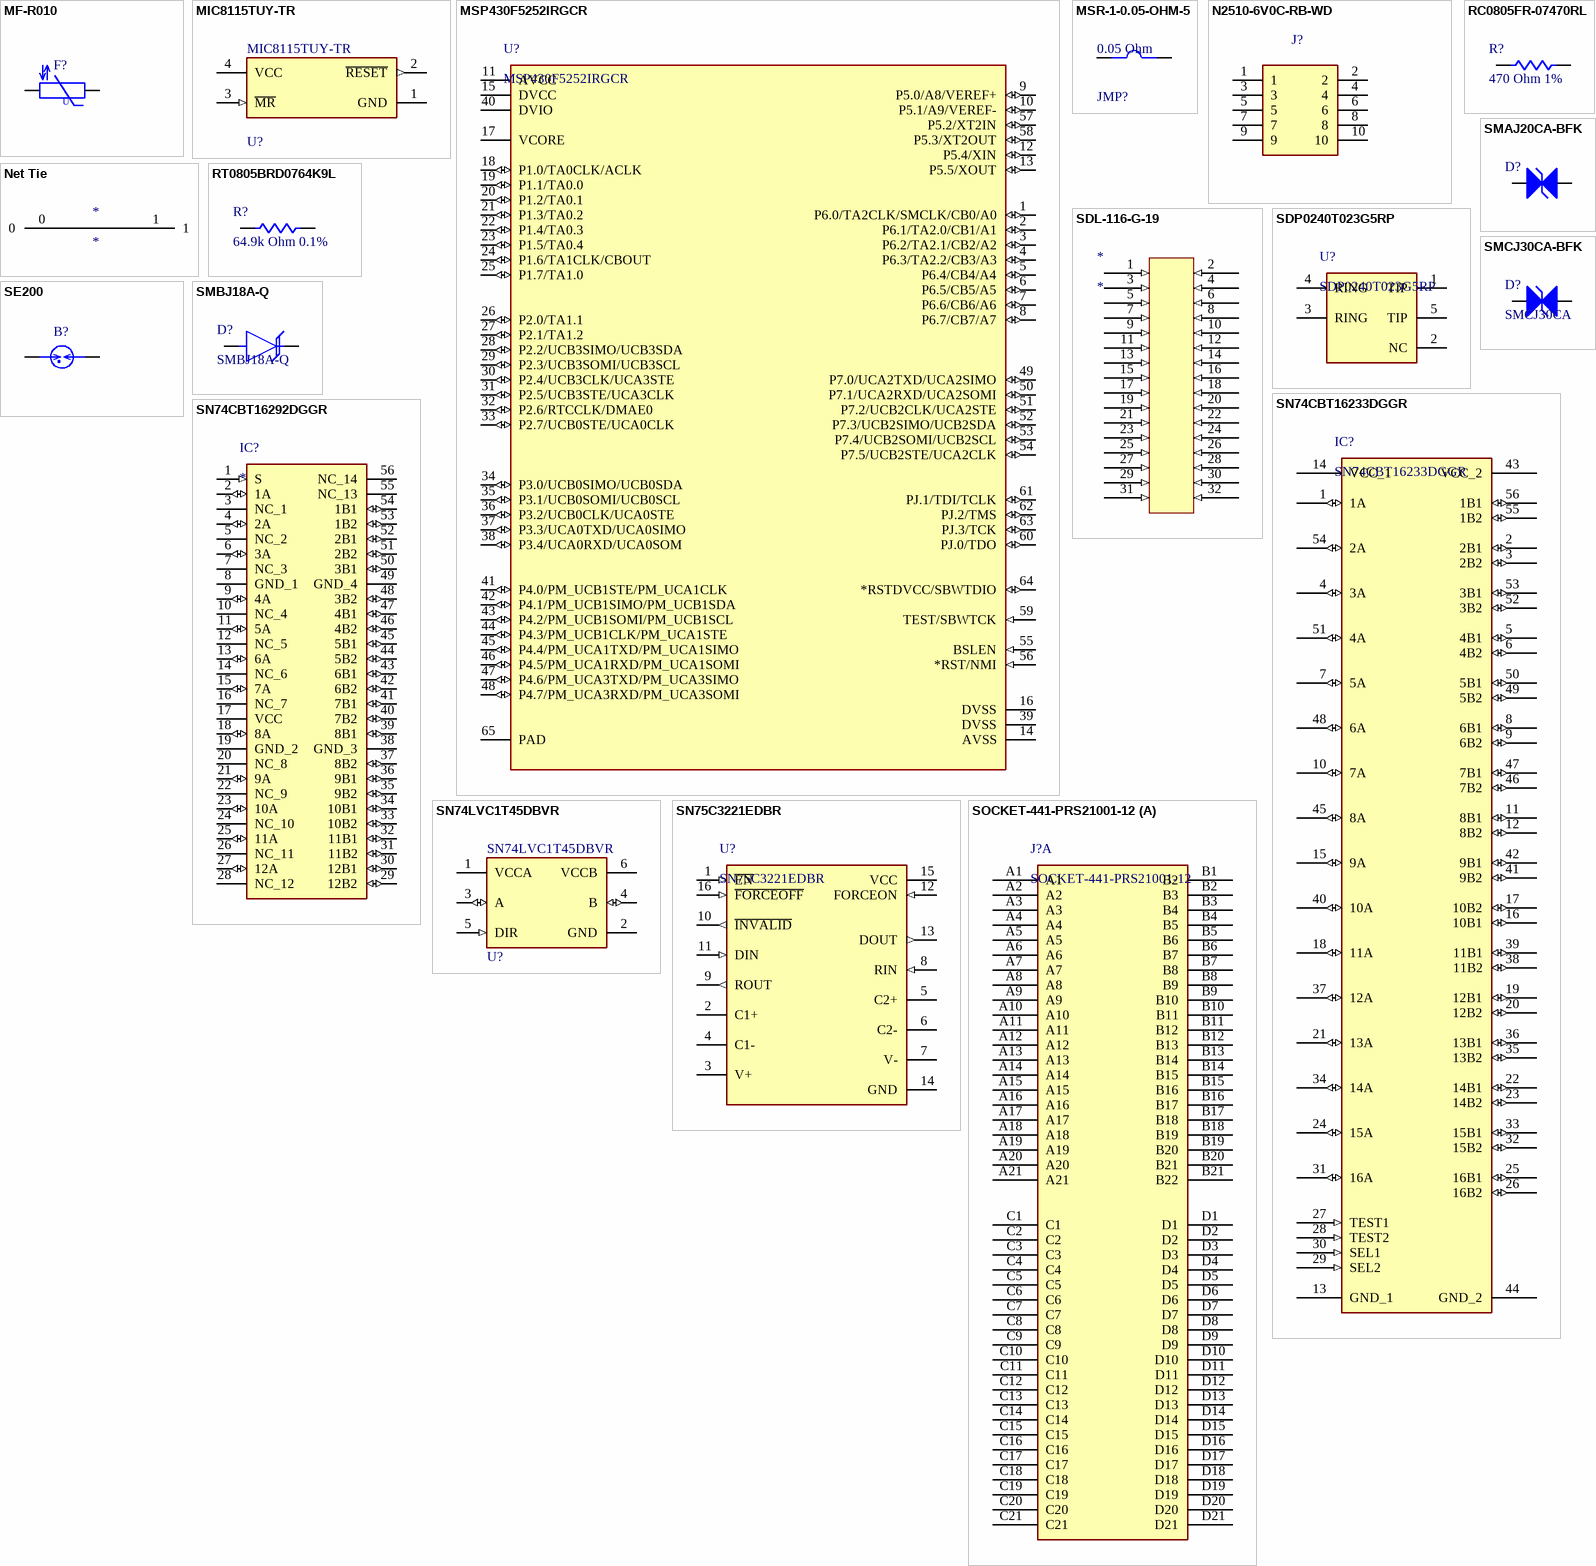
[diagram p3: symbols MF-R010 to SOCKET-441-PRS21001-12]

## MF-R010
designator F?, comment PTC4 MFR-010
Fuse, PTC, Resettable, Radial, 100mA Bourns 0.1A Radial Leaded PCB Mount Resettable Fuse, 60 V; Manufacturer_Part_Number: MF-R010; Mouser Part Number: 652-MFR010; Mouser Price/Stock: https://www.mouser.co.uk/ProductDetail/Bourns/MF-R010?qs=NZhrBIk5vYSszBMrewHGiw%3D%3D; Manufacturer_Name: Bourns; Datasheet Link: https://www.bourns.com/pdfs/mfr.pdf; KMI: *
footprint MF-R010-MFG
pins: 1, 2
text: U

## MIC8115TUY-TR
designator U?
IC SUPERVISOR 1 CHANNEL SOT143; Number of Voltages Monitored: 1; Power Dissipation: 320mW; Supply Current: 5uA; Min Reset Threshold Voltage: 3V; Reset: Active Low; Min Supply Voltage: 1V; Max Reset Threshold Voltage: 3.15V; Reset Timeout: 140ms; Max Supply Voltage: 5.5V; Watchdog Timer: No; Output: TOTEM-POLE; Threshold Voltage: 3.08V; KMI: 812240; RoHS Compliant: Yes; Number of Elements: 1; Min Operating Temperature: -40°C; Series: -; Type: Simple Reset/Power-On Reset; Nominal Supply Current: 5uA; Case/Package: SOT-143; Radiation Hardening: No; Max Operating Temperature: 85°C; Number of Pins: 4; Packaging: Tape and Reel; REACH SVHC: No SVHC; Mount: Surface Mount; Lead Free: Lead Free
footprint MIC8xx-SOT143-MFG
pins: 1 GND (power), 2 ~{RESET} (out), 3 ~{MR} (in), 4 VCC (power)

## MSP430F5252IRGCR
designator U?
25 MHz MCU with 128KB Flash, 16KB SRAM, comparator, DMA, UART/SPI/I2C, 1.8V Split-Rail I/O; Mfr_Name: Texas Instruments; KMI: 811718; Copyright: Copyright (C) 2022 Ultra Librarian. All rights reserved.; Manufacturer_Part_Number: MSP430F5252IRGCR; RefDes: RefDes; Type: DEV
footprint QFN50P900X900X100-65N
pins: 1 P6.0/TA2CLK/SMCLK/CB0/A0 (io), 2 P6.1/TA2.0/CB1/A1 (io), 3 P6.2/TA2.1/CB2/A2 (io), 4 P6.3/TA2.2/CB3/A3 (io), 5 P6.4/CB4/A4 (io), 6 P6.5/CB5/A5 (io), 7 P6.6/CB6/A6 (io), 8 P6.7/CB7/A7 (io), 9 P5.0/A8/VEREF+ (io), 10 P5.1/A9/VEREF- (io), 11 AVCC (power), 12 P5.4/XIN (io), 13 P5.5/XOUT (io), 14 AVSS, 15 DVCC (power), 16 DVSS, 17 VCORE (power), 18 P1.0/TA0CLK/ACLK (io), 19 P1.1/TA0.0 (io), 20 P1.2/TA0.1 (io), 21 P1.3/TA0.2 (io), 22 P1.4/TA0.3 (io), 23 P1.5/TA0.4 (io), 24 P1.6/TA1CLK/CBOUT (io), 25 P1.7/TA1.0 (io), 26 P2.0/TA1.1 (io), 27 P2.1/TA1.2 (io), 28 P2.2/UCB3SIMO/UCB3SDA (io), 29 P2.3/UCB3SOMI/UCB3SCL (io), 30 P2.4/UCB3CLK/UCA3STE (io), 31 P2.5/UCB3STE/UCA3CLK (io), 32 P2.6/RTCCLK/DMAE0 (io), 33 P2.7/UCB0STE/UCA0CLK (io), 34 P3.0/UCB0SIMO/UCB0SDA (io), 35 P3.1/UCB0SOMI/UCB0SCL (io), 36 P3.2/UCB0CLK/UCA0STE (io), 37 P3.3/UCA0TXD/UCA0SIMO (io), 38 P3.4/UCA0RXD/UCA0SOM (io), 39 DVSS, 40 DVIO (power), 41 P4.0/PM_UCB1STE/PM_UCA1CLK (io), 42 P4.1/PM_UCB1SIMO/PM_UCB1SDA (io), 43 P4.2/PM_UCB1SOMI/PM_UCB1SCL (io), 44 P4.3/PM_UCB1CLK/PM_UCA1STE (io), 45 P4.4/PM_UCA1TXD/PM_UCA1SIMO (io), 46 P4.5/PM_UCA1RXD/PM_UCA1SOMI (io), 47 P4.6/PM_UCA3TXD/PM_UCA3SIMO (io), 48 P4.7/PM_UCA3RXD/PM_UCA3SOMI (io), 49 P7.0/UCA2TXD/UCA2SIMO (io), 50 P7.1/UCA2RXD/UCA2SOMI (io), 51 P7.2/UCB2CLK/UCA2STE (io), 52 P7.3/UCB2SIMO/UCB2SDA (io), 53 P7.4/UCB2SOMI/UCB2SCL (io), 54 P7.5/UCB2STE/UCA2CLK (io), 55 BSLEN (in), 56 *RST/NMI (in), 57 P5.2/XT2IN (io), 58 P5.3/XT2OUT (io), 59 TEST/SBWTCK (in), 60 PJ.0/TDO (io), 61 PJ.1/TDI/TCLK (io), 62 PJ.2/TMS (io), 63 PJ.3/TCK (io), 64 *RSTDVCC/SBWTDIO (io), 65 PAD

## MSR-1-0.05-OHM-5
designator JMP?, comment 0.05 Ohm
0 ohm jumper; RoHS Compliant: Yes; Number of Pins: 2; Min Operating Temperature: -55°C; Value: 0.05 Ohm
footprint MSR-1-0.05-OHM-5
pins: 1, 2

## N2510-6V0C-RB-WD
designator J?
Header; Manufacturer_Name: 3M; KMI: 853876; Mouser Part Number: 517-N2510-6V0C-RB-WD; Mouser Price/Stock: https://www.mouser.co.uk/ProductDetail/3M-Electronic-Solutions-Division/N2510-6V0C-RB-WD?qs=Lbk6Md3wKLsE2pBv0gkdgA%3D%3D; Manufacturer_Part_Number: N2510-6V0C-RB-WD; Datasheet Link: http://componentsearchengine.com/Datasheets/1/N2510-6V0C-RB-WD.pdf
footprint 3M_N2510-6V0C-RB-WD
pins: 1, 2, 3, 4, 5, 6, 7, 8, 9, 10

## Net Tie
designator *
pins: 0, 1

## RC0805FR-07470RL
designator R?, comment 470 Ohm 1%
470 OHM 1% 1/8W 0805; Value: 470 Ohm 1%; KMI: *
footprint R0805-XXXXXX-XXX (C0805-XXXXXX-XXX)
pins: 1, 2

## RT0805BRD0764K9L
designator R?, comment 64.9k Ohm 0.1%
64.9K OHM 0.1% 1/8W 0805; Value: 64.9k Ohm 0.1%; KMI: *
footprint R0805-XXXXXX-XXX (C0805-XXXXXX-XXX)
pins: 1, 2

## SDL-116-G-19
designator *
footprint CON32_2X16_TU_DSL_SAI
pins: 1 (in), 2 (in), 3 (in), 4 (in), 5 (in), 6 (in), 7 (in), 8 (in), 9 (in), 10 (in), 11 (in), 12 (in), 13 (in), 14 (in), 15 (in), 16 (in), 17 (in), 18 (in), 19 (in), 20 (in), 21 (in), 22 (in), 23 (in), 24 (in), 25 (in), 26 (in), 27 (in), 28 (in), 29 (in), 30 (in), 31 (in), 32 (in)

## SDP0240T023G5RP
designator U?
Thyristor Surge Protection Devices - TSPD 30A 24V SOT23-5L; Number of Outputs: 1; KMI: 812243; ComponentLink2URL: https://www.digikey.com/en/products/detail/littelfuse-inc/SDP0240T023G5RP/3911071; RoHS: TRUE; Mounting Technology: Surface Mount; ComponentLink2Description: Datasheet
footprint SOT23-5 (SOT143-4 as used in SP0503BAHTG)
pins: 1 TIP, 2 NC (power) "Ground. The exposed pad must be soldered to the printed circuit board ground plane for optimal electrical and thermal performance.", 3 RING, 4 RING, 5 TIP

## SE200
designator B?
Gas Discharge Tubes - GDTs / Gas Plasma Arrestors 200V <0.3 pf IMPL 1100 Volts @1Kv; Manufacturer_Name: LITTELFUSE; Geometry.Height: 1.8mm; Mouser Part Number: 576-SE200; Mouser Price/Stock: https://www.mouser.co.uk/ProductDetail/Littelfuse/SE200?qs=lH1ILECabYkGBotepxEqbg%3D%3D; Manufacturer_Part_Number: SE200; Datasheet Link: https://www.mouser.co.uk/datasheet/2/240/Littelfuse_GDT_SE_Datasheet.pdf-890536.pdf; KMI: *
footprint SE200
pins: 1, 2

## SMAJ20CA-BFK
designator D?
Transient Voltage Suppressor, 6.40 to 231 V, 20 V Stand-off Voltage, Bi-Directional, -55 to 155 degC, 2-pin DO-214AC, Pb-Free, Tape and Reel; PartNumber: SMAJ20CA; PPPM (W): 400, 300; ID (uA): 2; IFSM: 40 A; ComponentLink3URL: http://www.vishay.com/docs/88390/smaj50a.pdf; ComponentLink1URL: http://www.vishay.com/; DatasheetVersion: 12/8/2013; ComponentLink3Description: Package Specification; PackageDescription: 2-Pin DO-214AC (SMA), Body 4.245 x 2.665 mm; ComponentLink2Description: Datasheet; Packing: Tape and Reel; PackageReference: DO-214AC-2; Operating Junction and Storage Temperature Range: -55 to 150 degC; ComponentLink2URL: http://www.vishay.com/docs/88390/smaj50a.pdf; ComponentLink1Description: Manufacturer URL; KMI: *
footprint SMAJ20CA
pins: 1 A1, 2 A2

## SMBJ18A-Q
designator D?
TVS DIODE 18VWM 29.2VC SMB; Mfg Name: Bourns; KMI: 800581; Comm Number: SMBJ18A-Q; Value: SMBJ18A-Q
footprint SMBJ18A-Q
pins: 1 C, 2 A

## SMCJ30CA-BFK
designator D?, comment SMCJ30CA
Transient Voltage Suppression Diode, Bi-directional 30 V, -65 to 150 degC, 2-Pin DO-214AB (SMCJ), RoHS, Tape and Reel; Manufacturer: Littelfuse-Inc.; Current - Peak Pulse (10/1000µs): 31A; Voltage - Reverse Standoff (Typ): 30V; KMI: 800227; Capacitance @ Frequency: -; Package / Case: DO-214AB,SMC; Supplier Device Package: DO-214AB(SMCJ); Mounting Type: SurfaceMount; Series: SMCJ
footprint SMCJ30CA (Molded Diode, 2-Leads, Body 7.11x6.22mm)
pins: 1 A1, 2 A2

## SN74CBT16233DGGR
designator IC?
16-BIT 1-OF-2 FET MULTIPLEXER/DEMULTIPLEXER; Manufacturer_Name: Texas Instruments; Datasheet Link: http://www.ti.com/lit/gpn/sn74cbt16233; Height: 1.2mm; Manufacturer_Part_Number: SN74CBT16233DGGR; Mouser Part Number: 595-SN74CBT16233DGGR; Mouser Price/Stock: https://www.mouser.co.uk/ProductDetail/Texas-Instruments/SN74CBT16233DGGR?qs=1K8%2FAQHn5WTDz8pDdf5JvQ%3D%3D; Arrow Part Number: SN74CBT16233DGGR; Arrow Price/Stock: https://www.arrow.com/en/products/sn74cbt16233dggr/texas-instruments
footprint SOP50P810X120-56N
pins: 1 1A (io), 2 2B1 (io), 3 2B2 (io), 4 3A (io), 5 4B1 (io), 6 4B2 (io), 7 5A (io), 8 6B1 (io), 9 6B2 (io), 10 7A (io), 11 8B1 (io), 12 8B2 (io), 13 GND_1 (power), 14 VCC_1 (power), 15 9A (io), 16 10B1 (io), 17 10B2 (io), 18 11A (io), 19 12B1 (io), 20 12B2 (io), 21 13A (io), 22 14B1 (io), 23 14B2 (io), 24 15A (io), 25 16B1 (io), 26 16B2 (io), 27 TEST1 (in), 28 TEST2 (in), 29 SEL2 (in), 30 SEL1 (in), 31 16A (io), 32 15B2 (io), 33 15B1 (io), 34 14A (io), 35 13B2 (io), 36 13B1 (io), 37 12A (io), 38 11B2 (io), 39 11B1 (io), 40 10A (io), 41 9B2 (io), 42 9B1 (io), 43 VCC_2 (power), 44 GND_2 (power), 45 8A (io), 46 7B2 (io), 47 7B1 (io), 48 6A (io), 49 5B2 (io), 50 5B1 (io), 51 4A (io), 52 3B2 (io), 53 3B1 (io), 54 2A (io), 55 1B2 (io), 56 1B1 (io)

## SN74CBT16292DGGR
designator IC?
Integrated Circuit; Manufacturer_Name: Texas Instruments; Manufacturer_Part_Number: SN74CBT16292DGGR; Datasheet Link: http://www.ti.com/lit/gpn/sn74cbt16292; Height: 1.2mm; Mouser Part Number: 595-SN74CBT16292DGGR; Mouser Price/Stock: https://www.mouser.co.uk/ProductDetail/Texas-Instruments/SN74CBT16292DGGR?qs=tJ5HNKWh3OV0nxlfM7fwiw%3D%3D; Arrow Part Number: SN74CBT16292DGGR; Arrow Price/Stock: https://www.arrow.com/en/products/sn74cbt16292dggr/texas-instruments
footprint SOP50P810X120-56N
pins: 1 S (in), 2 1A (io), 3 NC_1, 4 2A (io), 5 NC_2, 6 3A (io), 7 NC_3, 8 GND_1 (power), 9 4A (io), 10 NC_4, 11 5A (io), 12 NC_5, 13 6A (io), 14 NC_6, 15 7A (io), 16 NC_7, 17 VCC (power), 18 8A (io), 19 GND_2 (power), 20 NC_8, 21 9A (io), 22 NC_9, 23 10A (io), 24 NC_10, 25 11A (io), 26 NC_11, 27 12A (io), 28 NC_12, 29 12B2 (io), 30 12B1 (io), 31 11B2 (io), 32 11B1 (io), 33 10B2 (io), 34 10B1 (io), 35 9B2 (io), 36 9B1 (io), 37 8B2 (io), 38 GND_3 (power), 39 8B1 (io), 40 7B2 (io), 41 7B1 (io), 42 6B2 (io), 43 6B1 (io), 44 5B2 (io), 45 5B1 (io), 46 4B2 (io), 47 4B1 (io), 48 3B2 (io), 49 GND_4 (power), 50 3B1 (io), 51 2B2 (io), 52 2B1 (io), 53 1B2 (io), 54 1B1 (io), 55 NC_13, 56 NC_14